# EAGLE library part AT24C02D (library lichtenstein_onion)
I2C-Compatible (2-wire) Serial EEPROM; 1-Kbit (128 x 8) or 2-Kbit (256 x 8) Footprint Proven Datasheet <http://ww1.microchip.com/downloads/en/DeviceDoc/Atmel-8871F-SEEPROM-AT24C01D-02D-Datasheet.pdf>
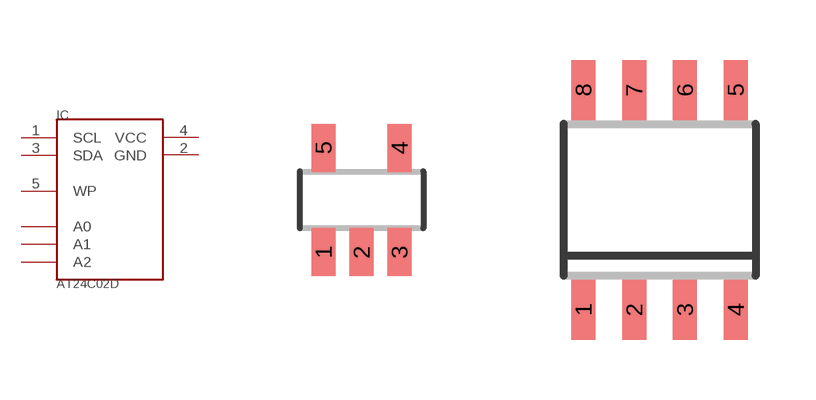
[diagram p5: symbol with the pads of SOT23-5; footprints SOT23-5, SOIC8]

Designator prefix IC

## AT24C02D (MOUSER: 556-AT24C01D-STUM-T)  [SOT23-5]
1  SCL
2  GND  pwr
3  SDA
4  VCC  pwr
5  WP

## AT24C02DSOIC-8 (MOUSER: 556-AT24C02D-SSHM-T)  [SOIC8]
1  A0
2  A1
3  A2
4  GND  pwr
5  SDA
6  SCL
7  WP
8  VCC  pwr

## Footprint SOT23-5 (pad centres in mm)
Small Outline Transistor, 5 lead
smd 0.6 x 1.2: 1 -0.95,-1.306; 2 0,-1.306; 3 0.95,-1.306; 4 0.95,1.306; 5 -0.95,1.306

## Footprint SOIC8 (pad centres in mm)
SOIC-8 CASE 751-07 Source: http://www.onsemi.com/pub/Collateral/MC34164-D.PDF D (R-PDSO-G8)PLATIC SMALL-OUTLINE PACKAGE Source: http://focus.ti.com/lit/ds/symlink/tlc27l2.pdf
smd 0.6 x 1.5: 1 -1.905,-2.75; 2 -0.635,-2.75; 3 0.635,-2.75; 4 1.905,-2.75; 5 1.905,2.75; 6 0.635,2.75; 7 -0.635,2.75; 8 -1.905,2.75